# EAGLE library part ESP32-T (library yb-library)
ESP32-T (China Board with ESP32-Bit Modul)
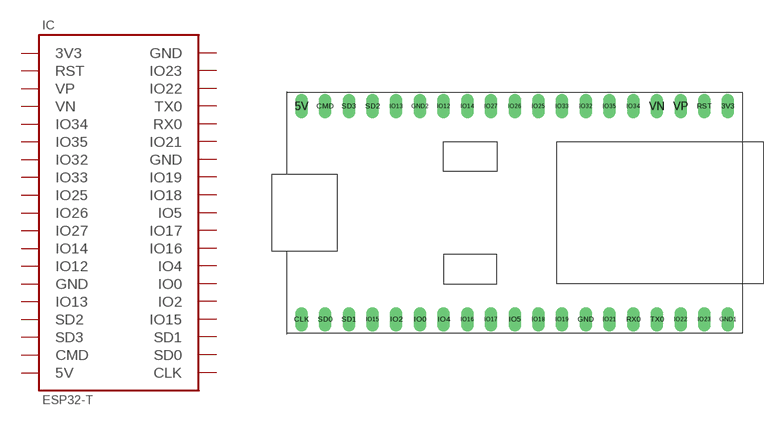
[diagram p12: symbol with the pads of ESP32-T; footprint ESP32-T]

Designator prefix IC

## ESP32-T  [ESP32-T]
3V3  3V3  pwr
5V  5V  pwr
CLK  CLK
CMD  CMD
GND  GND  pwr
GND1  GND  pwr
GND2  GND  pwr
IO0  IO0
IO2  IO2
IO4  IO4
IO5  IO5
IO12  IO12
IO13  IO13
IO14  IO14
IO15  IO15
IO16  IO16
IO17  IO17
IO18  IO18
IO19  IO19
IO21  IO21
IO22  IO22
IO23  IO23
IO25  IO25
IO26  IO26
IO27  IO27
IO32  IO32
IO33  IO33
IO34  IO34
IO35  IO35
RST  RST
RX0  RX0  in
SD0  SD0
SD1  SD1
SD2  SD2
SD3  SD3
TX0  TX0  out
VN  VN
VP  VP

## Footprint ESP32-T (pad centres in mm)
drill 0.813 long: 3V3 22.86,11.43; 5V -22.86,11.43; CLK -22.86,-11.43; CMD -20.32,11.43; GND 7.62,-11.43; GND1 22.86,-11.43; GND2 -10.16,11.43; IO0 -10.16,-11.43; IO2 -12.7,-11.43; IO4 -7.62,-11.43; IO5 0,-11.43; IO12 -7.62,11.43; IO13 -12.7,11.43; IO14 -5.08,11.43; IO15 -15.24,-11.43; IO16 -5.08,-11.43; IO17 -2.54,-11.43; IO18 2.54,-11.43; IO19 5.08,-11.43; IO21 10.16,-11.43; IO22 17.78,-11.43; IO23 20.32,-11.43; IO25 2.54,11.43; IO26 0,11.43; IO27 -2.54,11.43; IO32 7.62,11.43; IO33 5.08,11.43; IO34 12.7,11.43; IO35 10.16,11.43; RST 20.32,11.43; RX0 12.7,-11.43; SD0 -20.32,-11.43; SD1 -17.78,-11.43; SD2 -15.24,11.43; SD3 -17.78,11.43; TX0 15.24,-11.43; VN 15.24,11.43; VP 17.78,11.43